# EAGLE library part RFM22B (library LearningByMaking)
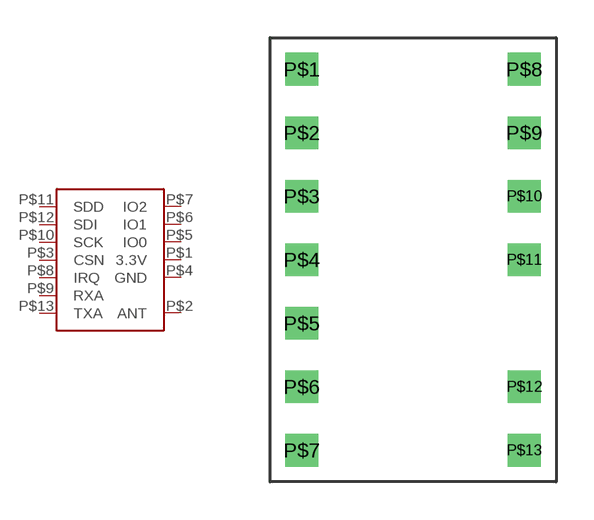
[diagram p2: symbol with the pads of RFM22B; footprint RFM22B]

Designator prefix -

## RFM22B  [RFM22B]
P$1  3.3V
P$2  ANT
P$3  CSN
P$4  GND
P$5  IO0
P$6  IO1
P$7  IO2
P$8  IRQ
P$9  RXA
P$10  SCK
P$11  SDD
P$12  SDI
P$13  TXA

## Footprint RFM22B (pad centres in mm)
drill 0.8 square: P$1 -5.08,3.81; P$2 -5.08,1.27; P$3 -5.08,-1.27; P$4 -5.08,-3.81; P$5 -5.08,-6.35; P$6 -5.08,-8.89; P$7 -5.08,-11.43; P$8 3.81,3.81; P$9 3.81,1.27; P$10 3.81,-1.27; P$11 3.81,-3.81; P$12 3.81,-8.89; P$13 3.81,-11.43